# EAGLE library part LM5085 (library LM5085)
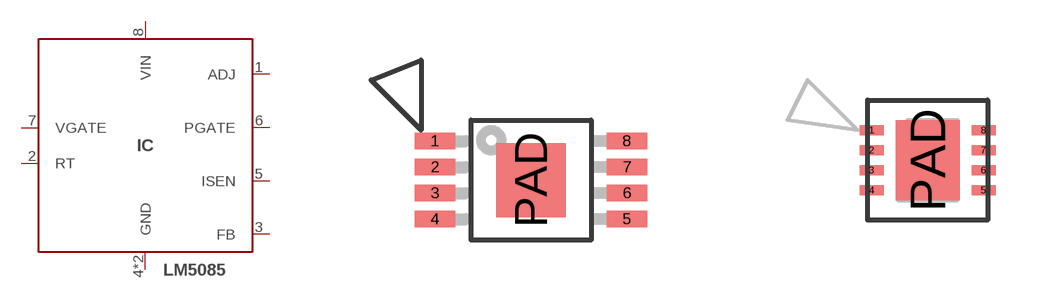
[diagram p0: symbol with the pads of HVSSOP-8; footprints HVSSOP-8, WSON-8]

Designator prefix IC

## LM5085MY  [HVSSOP-8]
1  ADJ
2  RT  in
3  FB  in
4  GND  pwr
5  ISEN  in
6  PGATE  out
7  VGATE  in
8  VIN  pwr
PAD  GND  pwr

## LM5085SD  [WSON-8]
Pads as for HVSSOP-8

## Footprint HVSSOP-8 (pad centres in mm)
smd 1.02 x 0.41: 1 -2.4,0.975; 2 -2.4,0.325; 3 -2.4,-0.325; 4 -2.4,-0.975; 5 2.4,-0.975; 6 2.4,-0.325; 7 2.4,0.325; 8 2.4,0.975
smd 1.73 x 1.85: PAD 0,0

## Footprint WSON-8 (pad centres in mm)
smd 0.6 x 0.25: 1 -1.4,0.75; 2 -1.4,0.25; 3 -1.4,-0.25; 4 -1.4,-0.75; 5 1.4,-0.75; 6 1.4,-0.25; 7 1.4,0.25; 8 1.4,0.75
smd 1.6 x 2: PAD 0,0